# Altium footprint library LCD.PcbLib: 8 footprints
Each footprint in its own frame and in the unit in brackets; x right, y up, seen from the top. Pads: shape width x height; smd on the part's side, far side on the other; paste and mask are expansions set on the pad; w line width, h text height; cw(c..) or ccw(c..) is an arc to the next point about the centre after c.
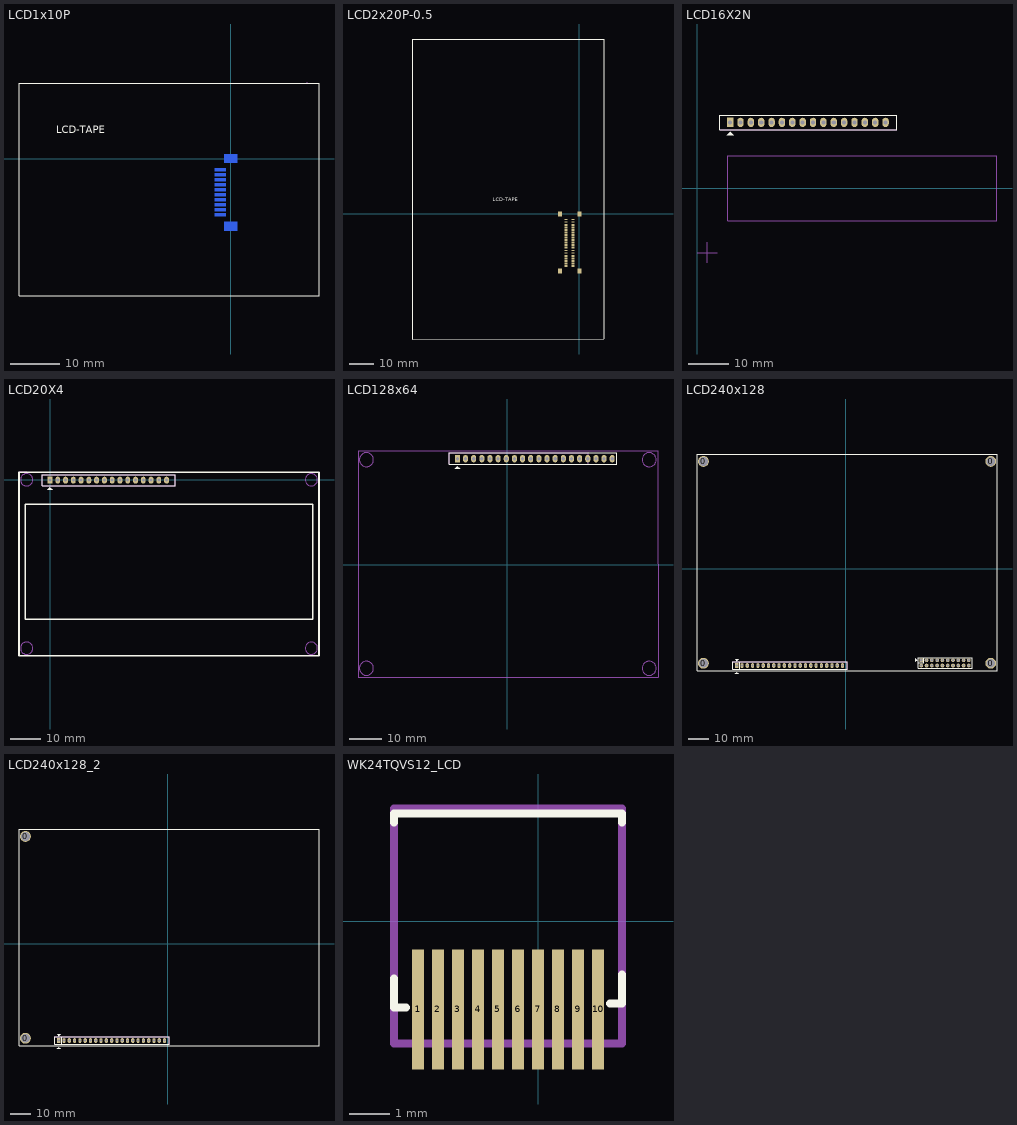
[diagram p0: the footprints below, top view; thin cyan lines are the x and y axes]

## LCD1x10P [mm] "LCD dipslay 16x2, 16 pin"
height 10.16
pads (12):
  rect 2.2x0.6 smd far side: 1(-2.075,-2.3) 2(-2.075,-3.3) 3(-2.075,-4.3) 4(-2.075,-5.3) 5(-2.075,-6.3) 6(-2.075,-7.3) 7(-2.075,-8.3) 8(-2.075,-9.3) 9(-2.075,-10.3) 10(-2.075,-11.3)
  rect 2.6x1.8 smd far side: ""(0,-13.6) ""(0,0)
Top Overlay:
  lines w0.2: -42.548,-27.582 17.793,-27.582 17.793,15.138 -42.548,15.138 -42.548,-27.582
  text "LCD-TAPE" at -35.025,4.603 h2.5
Mechanical 1:
  lines w0.2: 15.168,15.178 15.412,15.178 15.412,15.313
3D body "Màn hình 4 (1).STEP": height 2.25, standoff -3.3, extent -42.548,-27.782 17.793,14.938

## LCD2x20P-0.5 [mm] "LCD dipslay 16x2, 16 pin"
height 10.16
pads (84):
  rect 1.2x0.35 smd: 1(-5.325,-21.25) 1(-2.55,-21.25) 2(-5.325,-20.75) 2(-2.55,-20.75) 3(-5.325,-20.25) 3(-2.55,-20.25) 4(-5.325,-19.75) 4(-2.55,-19.75) 5(-5.325,-19.25) 5(-2.55,-19.25) 6(-5.325,-18.75) 6(-2.55,-18.75) 7(-5.325,-18.25) 7(-2.55,-18.25) 8(-5.325,-17.75) 8(-2.55,-17.75) 9(-5.325,-17.25) 9(-2.55,-17.25) 10(-5.325,-16.75) 10(-2.55,-16.75) 11(-5.325,-16.25) 11(-2.55,-16.25) 12(-5.325,-15.75) 12(-2.55,-15.75) 13(-5.325,-15.25) 13(-2.55,-15.25) 14(-5.325,-14.75) 14(-2.55,-14.75) 15(-5.325,-14.25) 15(-2.55,-14.25) 16(-5.325,-13.75) 16(-2.55,-13.75) 17(-5.325,-13.25) 17(-2.55,-13.25) 18(-5.325,-12.75) 18(-2.55,-12.75) 19(-5.325,-12.25) 19(-2.55,-12.25) 20(-5.325,-11.75) 20(-2.55,-11.75) 21(-5.325,-11.25) 21(-2.55,-11.25) 22(-5.325,-10.75) 22(-2.55,-10.75) 23(-5.325,-10.25) 23(-2.55,-10.25) 24(-5.325,-9.75) 24(-2.55,-9.75) 25(-5.325,-9.25) 25(-2.55,-9.25) 26(-5.325,-8.75) 26(-2.55,-8.75) 27(-5.325,-8.25) 27(-2.55,-8.25) 28(-5.325,-7.75) 28(-2.55,-7.75) 29(-5.325,-7.25) 29(-2.55,-7.25) 30(-5.325,-6.75) 30(-2.55,-6.75) 31(-5.325,-6.25) 31(-2.55,-6.25) 32(-5.325,-5.75) 32(-2.55,-5.75) 33(-5.325,-5.25) 33(-2.55,-5.25) 34(-5.325,-4.75) 34(-2.55,-4.75) 35(-5.325,-4.25) 35(-2.55,-4.25) 36(-5.325,-3.75) 36(-2.55,-3.75) 37(-5.325,-3.25) 37(-2.55,-3.25) 38(-5.325,-2.75) 38(-2.55,-2.75) 39(-5.325,-2.25) 39(-2.55,-2.25) 40(-5.325,-1.75) 40(-2.55,-1.75)
  rect 1.7x2 smd: ""(-7.875,-23) ""(-7.875,0) ""(0,-23) ""(0,0)
Top Overlay:
  lines w0.2: -67.425,-50.425 -67.425,70.525 9.825,70.525 9.825,-50.425 -67.425,-50.425
  text "LCD-TAPE" at -35.025,4.603 h2.5
3D body "5_2in new.STEP": height 21, standoff 14, extent -67.299,-50.3 9.7,70.4

## LCD16X2N [mil] "LCD dipslay 16x2, 16 pin"
height 400
pads (16):
  rect 62x90 hole 39: 1(320,635)
  oval 62x90 hole 39: 2(420,635) 3(520,635) 4(620,635) 5(720,635) 6(820,635) 7(920,635) 8(1020,635) 9(1120,635) 10(1220,635) 11(1320,635) 12(1420,635) 13(1520,635) 14(1620,635) 15(1720,635) 16(1820,635)
Top Overlay:
  region: 320,545 285,510 355,510
  lines w7: 220,564 220,705 1928,705 1928,564 220,564
Mechanical 13:
  lines w7: 220,564 1928,564 1928,705 220,705 220,564
  lines w11.81: 0,-622.05 98.43,-622.05 ; 98.43,-720.47 98.43,-622.05 ; 98.43,-523.62 98.43,-622.05 ; 196.85,-622.05 98.43,-622.05 ; 297.24,-314.96 2895.67,-314.96 2895.67,0 2895.67,314.96 297.24,314.96 297.24,0 297.24,-314.96
  text ".Designator" at 320,630 h59.05
Mechanical 15:
  lines w7: 220,564 1928,564 1928,705 220,705 220,564
  text ".Value" at 320,635 h59.06
3D body "socket16.stp": height 276.19, standoff -117.51, extent 271,586 1871,686
3D body "jp16.stp": height 468.11, standoff -20.08, extent 271.97,586.57 1868.03,685
3D body "lcd16.STEP": height 764, standoff 244, extent 0.36,-718.49 3169.65,718.51

## LCD20X4 [mil]
pads (16):
  rect 62x90 hole 39: 1(-5.16,-4.77)
  oval 62x90 hole 39: 2(94.84,-4.77) 3(194.84,-4.77) 4(294.84,-4.77) 5(394.84,-4.77) 6(494.84,-4.77) 7(594.84,-4.77) 8(694.84,-4.77) 9(794.84,-4.77) 10(894.84,-4.77) 11(994.84,-4.77) 12(1094.84,-4.77) 13(1194.84,-4.77) 14(1294.84,-4.77) 15(1394.84,-4.77) 16(1494.84,-4.77)
Top Overlay:
  region: -5.16,-94.77 -40.16,-129.77 29.84,-129.77
  lines w7: -105.16,-75.77 -105.16,65.23 1602.84,65.23 1602.84,-75.77 -105.16,-75.77
  lines w19.68: -403.54,-2263.78 -403.54,98.43 3454.72,98.43 3454.72,-2263.78 -403.54,-2263.78 ; -324.8,-1791.34 -324.8,-314.96 3375.98,-314.96 3375.98,-1791.34 -324.8,-1791.34
Mechanical 1:
  circle w10: c3356.3,-2165.35 r78.74
  circle w10: c3356.3,0 r78.74
  circle w10: c-305.12,0 r78.74
  circle w10: c-305.12,-2165.35 r78.74
  lines w19.68: -403.54,0 -403.54,98.43 -305.12,98.43
Mechanical 13:
  lines w7: -105.16,-75.77 1602.84,-75.77 1602.84,65.23 -105.16,65.23 -105.16,-75.77
  text ".Designator" at -5.16,-9.77 h59.05
Mechanical 15:
  lines w7: -105.16,-75.77 1602.84,-75.77 1602.84,65.23 -105.16,65.23 -105.16,-75.77
  text ".Value" at -5.16,-4.77 h59.06
3D body "socket16.stp": height 276.19, standoff -117.51, extent -54.16,-53.77 1545.84,46.23
3D body "jp16.stp": height 468.11, standoff -20.08, extent -53.2,-53.2 1542.87,45.23
3D body: height 354.33, standoff 10, extent -408.72,-2253.94 3444.88,108.27

## LCD128x64 [mil]
pads (20):
  rect 62x90 hole 39: 1(-611.42,1302.31)
  oval 62x90 hole 39: 2(-511.42,1302.31) 3(-411.42,1302.31) 4(-311.42,1302.31) 5(-211.42,1302.31) 6(-111.42,1302.31) 7(-11.42,1302.31) 8(88.58,1302.31) 9(188.58,1302.31) 10(288.58,1302.31) 11(388.58,1302.31) 12(488.58,1302.31) 13(588.58,1302.31) 14(688.58,1302.31) 15(788.58,1302.31) 16(888.58,1302.31) 17(988.58,1302.31) 18(1088.58,1302.31) 19(1188.58,1302.31) 20(1288.58,1302.31)
Top Overlay:
  region: -611.42,1212.31 -646.42,1177.31 -576.42,1177.31
  lines w7: -711.42,1231.31 -711.42,1372.31 1343.58,1372.31 1343.58,1231.31 -711.42,1231.31
Mechanical 1:
  circle w11.81: c-1727.36,-1269.69 r86.62
  circle w11.81: c1742.12,-1269.69 r86.62
  circle w11.81: c1742.12,1289.37 r86.61
  circle w11.81: c-1727.36,1289.37 r86.61
  lines w11.81: -1830.71,-1377.95 -1830.71,1397.64 1850.39,1397.64 1850.39,-1377.95 -1830.71,-1377.95
Mechanical 13:
  lines w7: -711.42,1231.31 -711.42,1372.31 996.58,1372.31 996.58,1231.31 -711.42,1231.31
  text ".Designator" at -611.42,1297.31 h59.05
Mechanical 15:
  lines w7: -711.42,1231.31 -711.42,1372.31 996.58,1372.31 996.58,1231.31 -711.42,1231.31
  text ".Value" at -611.42,1302.31 h59.06
3D body "jp16.stp": height 468.11, standoff -20.08, extent -659.44,1253.89 936.62,1352.31
3D body "socket16.stp": height 276.19, standoff -117.51, extent -660.42,1253.3 939.58,1353.3
3D body "socket16.stp": height 276.19, standoff -117.51, extent -260.42,1253.3 1339.58,1353.3
3D body "jp16.stp": height 468.11, standoff -20.08, extent -259.44,1253.89 1336.62,1352.31
3D body "128 x 64 Pixel LCD Display.stp": height 771.65, standoff 393.7, extent -1820.86,-1368.11 1840.55,1387.8

## LCD240x128 [mm] "LCD dipslay 16x2, 16 pin"
height 10.16
pads (45):
  round 5.2 hole 4.2: 0(-68.4,-45.4) 0(-68.4,51.5) 0(69.5,-45.4) 0(69.5,51.5)
  round 1.8 hole 1.1: 0(36.14,-46.5) 0(38.68,-46.5) 0(38.68,-43.96) 0(41.22,-46.5) 0(41.22,-43.96) 0(43.76,-46.5) 0(43.76,-43.96) 0(46.3,-46.5) 0(46.3,-43.96) 0(48.84,-46.5) 0(48.84,-43.96) 0(51.38,-46.5) 0(51.38,-43.96) 0(53.92,-46.5) 0(53.92,-43.96) 0(56.46,-46.5) 0(56.46,-43.96) 0(59,-46.5) 0(59,-43.96)
  rect 1.8x1.8 hole 1.1: 0(36.14,-43.96)
  rect 1.575x2.286 hole 0.991: 1(-52.43,-46.5)
  oval 1.575x2.286 hole 0.991: 2(-49.89,-46.5) 3(-47.35,-46.5) 4(-44.81,-46.5) 5(-42.27,-46.5) 6(-39.73,-46.5) 7(-37.19,-46.5) 8(-34.65,-46.5) 9(-32.11,-46.5) 10(-29.57,-46.5) 11(-27.03,-46.5) 12(-24.49,-46.5) 13(-21.95,-46.5) 14(-19.41,-46.5) 15(-16.87,-46.5) 16(-14.33,-46.5) 17(-11.79,-46.5) 18(-9.25,-46.5) 19(-6.71,-46.5) 20(-4.17,-46.5) 21(-1.63,-46.5)
Top Overlay:
  region: -52.43,-49.611 -53.319,-50.5 -51.541,-50.5
  region: 34.144,-43.878 33.255,-42.989 33.255,-44.767
  region: -52.308,-44.324 -51.419,-43.435 -53.197,-43.435
  lines w0.178: -27.03,-48.303 0.57,-48.303 0.57,-44.722 -27.03,-44.722 ; -11.587,-48.303 -54.25,-48.303 -54.25,-44.722 -11.587,-44.722
  lines w0.2: 34.62,-45.23 37.41,-45.23 37.41,-42.69 ; 34.62,-47.77 60.52,-47.77 60.52,-42.69 34.62,-42.69 34.62,-47.77
  lines w0.25: -51.058,-48.303 -51.058,-44.722
  lines w0.6: -71.5,-49 -71.5,55 72.5,55 72.5,-49 66.75,-49 -71.5,-49
Mechanical 13:
  lines w0.178: -27.03,-48.303 0.57,-48.303 0.57,-44.722 -27.03,-44.722 ; -11.587,-48.303 -54.25,-48.303 -54.25,-44.722 -11.587,-44.722
  text ".Designator" at -52.43,-46.627 h1.5
  text ".Designator" at -24.49,-46.627 h1.5
Mechanical 15:
  lines w0.178: -27.03,-48.303 0.57,-48.303 0.57,-44.722 -27.03,-44.722 ; -11.587,-48.303 -54.25,-48.303 -54.25,-44.722 -11.587,-44.722
  text ".Value" at -52.43,-46.5 h1.5
  text ".Value" at -24.49,-46.5 h1.5
3D body "61302021821.stp": height 8.51, standoff -3.09, extent 34.62,-47.77 60.52,-42.69
3D body "socket16.stp": height 7.02, standoff -2.98, extent -53.675,-47.745 -13.035,-45.205
3D body "jp16.stp": height 11.89, standoff -0.51, extent -53.65,-47.73 -13.11,-45.23
3D body "socket16.stp": height 7.02, standoff -2.98, extent -40.975,-47.745 -0.335,-45.205
3D body "jp16.stp": height 11.89, standoff -0.51, extent -40.95,-47.73 -0.41,-45.23
3D body "User Library-TS240128D.STEP": height 19.38, standoff 7.05, extent -71.43,-48.9 72.57,55.1

## LCD240x128_2 [mil] "LCD dipslay 16x2, 16 pin"
height 400
pads (23):
  round 204.72 hole 165.35: 0(-2692.91,-1787.4) 0(-2692.91,2027.56)
  rect 62x90 hole 39: 1(-2064.17,-1830.71)
  oval 62x90 hole 39: 2(-1964.17,-1830.71) 3(-1864.17,-1830.71) 4(-1764.17,-1830.71) 5(-1664.17,-1830.71) 6(-1564.17,-1830.71) 7(-1464.17,-1830.71) 8(-1364.17,-1830.71) 9(-1264.17,-1830.71) 10(-1164.17,-1830.71) 11(-1064.17,-1830.71) 12(-964.17,-1830.71) 13(-864.17,-1830.71) 14(-764.17,-1830.71) 15(-664.17,-1830.71) 16(-564.17,-1830.71) 17(-464.17,-1830.71) 18(-364.17,-1830.71) 19(-264.17,-1830.71) 20(-164.17,-1830.71) 21(-64.17,-1830.71)
Top Overlay:
  region: -2064.17,-1953.19 -2099.17,-1988.19 -2029.17,-1988.19
  region: -2059.37,-1745.02 -2024.37,-1710.02 -2094.37,-1710.02
  lines w7: -1064.17,-1901.71 22.44,-1901.71 22.44,-1760.71 -1064.17,-1760.71 ; -456.17,-1901.71 -2135.83,-1901.71 -2135.83,-1760.71 -456.17,-1760.71
  lines w9.84: -2010.16,-1901.71 -2010.16,-1760.71
  lines w23.62: -2814.96,-1929.13 -2814.96,2165.35 2854.33,2165.35 2854.33,-1929.13 2627.95,-1929.13 -2814.96,-1929.13
Mechanical 13:
  lines w7: -1064.17,-1901.71 22.44,-1901.71 22.44,-1760.71 -1064.17,-1760.71 ; -456.17,-1901.71 -2135.83,-1901.71 -2135.83,-1760.71 -456.17,-1760.71
  text ".Designator" at -2064.17,-1835.71 h59.05
  text ".Designator" at -964.17,-1835.71 h59.05
Mechanical 15:
  lines w7: -1064.17,-1901.71 22.44,-1901.71 22.44,-1760.71 -1064.17,-1760.71 ; -456.17,-1901.71 -2135.83,-1901.71 -2135.83,-1760.71 -456.17,-1760.71
  text ".Value" at -2064.17,-1830.71 h59.06
  text ".Value" at -964.17,-1830.71 h59.06
3D body "socket16.stp": height 276.19, standoff -117.51, extent -2113.17,-1879.71 -513.17,-1779.71
3D body "jp16.stp": height 468.11, standoff -20.08, extent -2112.21,-1879.13 -516.14,-1780.71
3D body "socket16.stp": height 276.19, standoff -117.51, extent -1613.17,-1879.71 -13.17,-1779.71
3D body "jp16.stp": height 468.11, standoff -20.08, extent -1612.21,-1879.13 -16.14,-1780.71
3D body "User Library-TS240128D.STEP": height 762.99, standoff 277.56, extent -2812.2,-1925.2 2857.09,2169.29

## WK24TQVS12_LCD [mm]
pads (10):
  rect 0.3x3 smd: 1(-3,-2.2) 2(-2.5,-2.2) 3(-2,-2.2) 4(-1.5,-2.2) 5(-1,-2.2) 6(-0.5,-2.2) 7(0,-2.2) 8(0.5,-2.2) 9(1,-2.2) 10(1.5,-2.2)
Top Overlay:
  lines w0.2: -3.6,-1.425 -3.6,-2.15 -3.3,-2.15 ; -3.6,2.475 -3.6,2.702 2.1,2.702 2.1,2.475 ; 1.8,-2.05 2.1,-2.05 2.1,-1.325
Mechanical 13:
  lines w0.2: -3.6,-3.05 2.1,-3.05 2.1,2.818 -3.6,2.818 -3.6,-3.05
  text ".Designator" at -4.15,-0.572 h2
3D body "jst_1mm.step": height 2.9, standoff 0, extent -4.25,-2.2 2.75,2.75